# Altium footprint library Unitree_HW_LIB.PcbLib: 6 footprints
Each footprint in its own frame and in the unit in brackets; x right, y up, seen from the top. Pads: shape width x height; smd on the part's side, far side on the other; paste and mask are expansions set on the pad; w line width, h text height; cw(c..) or ccw(c..) is an arc to the next point about the centre after c.
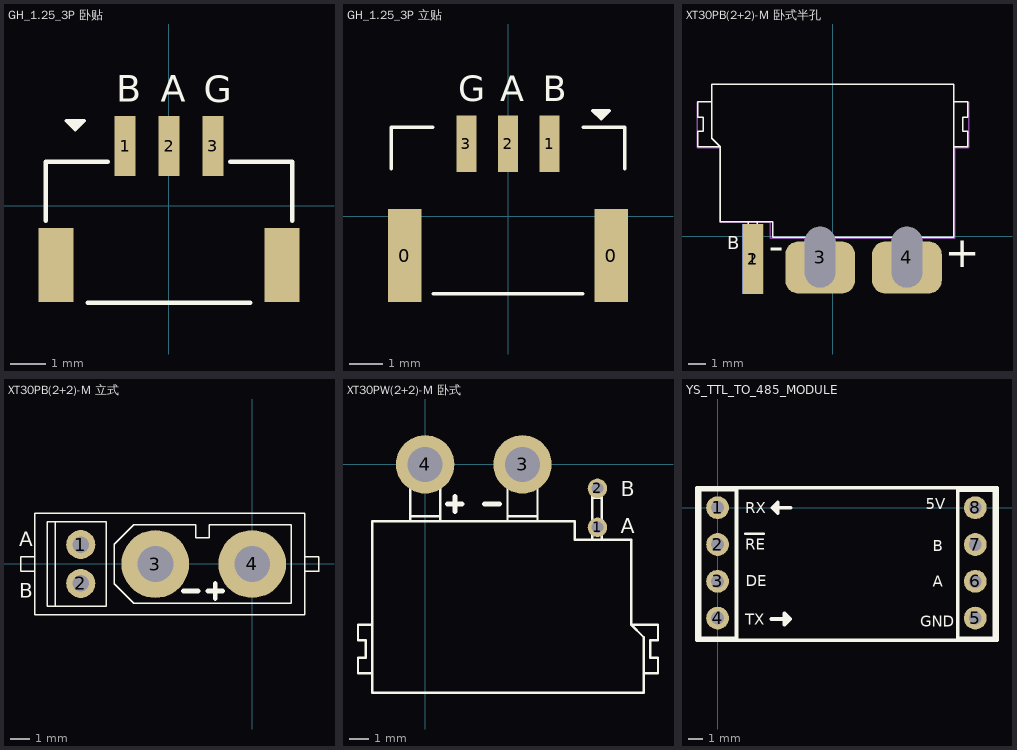
[diagram p0: the footprints below, top view; thin cyan lines are the x and y axes]

## GH_1.25_3P 卧贴 [mm]
pads (5):
  rect 0.6x1.7 smd: 1(-1.25,1.689) 2(0,1.689) 3(1.25,1.689)
  rect 1x2.1 smd: ""(-3.216,-1.689) ""(3.216,-1.689)
Top Overlay:
  region: -2.917,2.409 -2.417,2.409 -2.667,2.159
  lines w0.1: -2.917,2.409 -2.667,2.159 -2.417,2.409 -2.917,2.409
  lines w0.127: -3.5,-0.432 -3.5,1.245 -1.747,1.245 ; -2.306,-2.769 2.311,-2.769 ; 1.747,1.245 3.5,1.245 3.5,-0.432
  text "B" at -1.499,2.946 h0.76
  text "A" at -0.229,2.946 h0.76
  text "G" at 0.992,2.939 h0.76
3D body "SM03B-GHS-TB.STEP": height 4.35, standoff 0, extent -3.5,-2.793 3.5,2.057

## GH_1.25_3P 立贴 [mm]
pads (5):
  rect 1x2.8 smd: 0(-3.1,-1.175) 0(3.1,-1.175)
  rect 0.6x1.7 smd: 1(1.25,2.175) 2(0,2.175) 3(-1.25,2.175)
Top Overlay:
  region: 2.544,3.171 3.044,3.171 2.794,2.921
  lines w0.1: -3.5,1.425 -3.5,2.675 -2.25,2.675 ; -2.25,-2.325 2.25,-2.325 ; 2.25,2.675 3.5,2.675 3.5,1.425 ; 2.544,3.171 3.044,3.171 2.794,2.921 2.544,3.171
  text "G" at -1.499,3.454 h0.76
  text "A" at -0.229,3.454 h0.76
  text "B" at 1.041,3.454 h0.76
3D body "BM03B-GHS-TBT.STEP": height 4.18, standoff -0.03, extent -3.5,-2.275 3.5,2.675

## XT30PB(2+2)-M 卧式半孔 [mm]
pads (4):
  rect 1.2x4 smd far side: 1(-4.6,-1.3)
  rect 1.2x4 smd: 2(-4.6,-1.3)
  rrect50% 4x3 hole 1.75 slot 3.5 at 90 deg copper offset 0,-0.6: 3(-0.734,-1.188) 4(4.25,-1.188)
Top Overlay:
  lines w0.076: -6.952,7.739 -7.752,7.739 -7.752,6.839 -7.452,6.839 -7.452,6.039 -7.752,6.039 -7.752,5.139 -6.452,5.139 ; -4.852,0.839 -4.852,-1.661 ; -4.352,0.839 -4.352,-1.661 ; -1.552,-0.061 -1.552,-2.261 ; 0.048,-0.061 0.048,-2.261 ; 3.448,-0.061 3.448,-2.261 ; 5.048,-0.061 5.048,-2.261 ; 6.948,5.139 7.748,5.139 7.748,6.039 7.448,6.039 7.448,6.839 7.748,6.839 7.748,7.739 6.948,7.739 ; -6.452,5.139 -6.452,0.839 -3.452,0.839 -3.452,-0.061 6.948,-0.061 6.948,8.739 -6.952,8.739 -6.952,5.639 -6.452,5.139 ; -4.852,-1.661 -4.702,-2.261 -4.502,-2.261 -4.352,-1.661 ; -4.852,-1.661 -4.352,-1.661 ; -1.552,-2.261 -1.252,-2.561 -0.252,-2.561 0.048,-2.261 ; -1.552,-2.261 0.048,-2.261 ; 3.448,-2.261 3.748,-2.561 4.748,-2.561 5.048,-2.261 ; 3.448,-2.261 5.048,-2.261
  text "B" at -6.071,-0.737 h0.76
  text "+" at 6.42,-2.349 h3
  text "-" at -3.691,-1.952 h3
Bottom Overlay:
  text "A" at -5.613,-0.737 h0.76
  text "+" at 6.42,-0.524 h3
  text "-" at -3.708,-0.596 h3
Mechanical 1:
  lines w0.076: -7.8,7.738 -7.8,5.1 -6.5,5.1 -6.5,0.8 -3.6,0.8 -3.6,-0.1 -1.6,-0.1 -1.6,-2.652 0.1,-2.652 0.1,-0.1 3.4,-0.1 3.4,-2.65 3.402,-2.652 5.1,-2.652 5.1,-0.1 7,-0.1 7,5.1 7.8,5.1 7.8,7.734
3D body "XT30PB(2+2)-M 3D DRAWING.STEP": height 1.83, standoff -3.37, extent -7.752,-2.561 7.748,8.739

## XT30PB(2+2)-M 立式 [mm]
pads (4):
  round 1.5 hole 0.85: 1(-8.85,1) 2(-8.85,-1)
  round 3.5 hole 1.85: 3(-5,0) 4(0,0)
Top Overlay:
  lines w0.076: -11.23,-0.366 -11.96,-0.366 ; -10.18,-2.185 -10.18,2.184 ; -11.96,-0.366 -11.96,0.364 -11.23,0.364 ; -11.96,-0.366 -11.96,-0.366 ; -11.23,0.364 -11.23,0.364 ; -10.59,-2.185 -7.54,-2.185 ; -10.59,-2.185 -10.59,2.184 -7.54,2.184 -7.54,-2.185 ; -10.59,-2.185 -10.59,-2.185 ; -7.54,-2.185 -7.54,-2.185 ; -7.11,1.015 -6.11,2.015 -2.91,2.015 -2.91,2.015 -2.91,1.345 ; -7.11,1.015 -7.11,-1.015 -6.11,-2.015 ; -7.11,1.015 -7.11,1.015 ; -7.11,1.015 -7.11,1.015 ; -6.11,-2.015 2.02,-2.015 2.02,-2.015 2.02,2.015 ; -6.11,-2.015 -6.11,-2.015 ; -6.11,-2.015 -6.11,-2.015 ; -2.91,1.345 -2.91,1.345 ; -2.91,1.345 -2.21,1.345 ; -2.21,1.345 -2.21,2.015 2.02,2.015 ; -2.21,1.345 -2.21,1.345 ; 2.02,2.015 2.02,2.015 ; 2.72,-0.365 3.45,-0.365 ; 2.72,-0.365 2.72,-0.365 ; 2.72,-0.365 2.72,0.365 2.72,0.365 3.45,0.365 3.45,0.365 3.45,-0.365 ; 2.72,-0.365 2.72,-2.615 2.72,-2.615 -11.23,-2.615 -11.23,2.614 -11.229,2.615 2.72,2.615 ; 2.72,-0.365 2.72,-0.365 ; 2.72,-0.365 2.72,2.615 ; 2.72,2.615 2.72,2.615 ; 3.45,-0.365 3.45,-0.365
  lines w0.254: -3.556,-1.397 -2.794,-1.397 ; -2.286,-1.397 -1.524,-1.397 ; -1.905,-1.778 -1.905,-1.016
  text "B" at -12.04,-1.753 h0.76
  text "A" at -12.04,0.914 h0.76
3D body "XT30PB(2+2)-M 3D DRAWING.STEP": height 8.9, standoff -2.4, extent -12.005,-2.615 3.495,2.585

## XT30PW(2+2)-M 卧式 [mm]
pads (4):
  round 1 hole 0.6: 1(8.85,-3.23) 2(8.85,-1.23)
  round 3 hole 1.8: 3(5,0) 4(0,0)
Top Overlay:
  lines w0.127: -2.72,-10.73 -3.45,-10.73 -3.45,-9.93 -3.05,-9.93 -3.05,-9.03 -3.45,-9.03 -3.45,-8.23 -2.72,-8.23 ; -0.77,-2.93 -0.77,-2.67 ; 0.77,-2.93 0.77,-2.67 ; 4.23,-2.93 4.23,-2.67 ; 5.77,-2.93 5.77,-2.67 ; 8.58,-3.88 8.58,-1.71 ; 9.07,-3.88 9.07,-1.71 ; 11.23,-10.73 11.96,-10.73 11.96,-9.93 11.56,-9.93 11.56,-9.03 11.96,-9.03 11.96,-8.23 10.58,-8.23 ; -0.77,-2.67 -0.77,-0.18 cw(c0,-0.18) 0,0.59 cw(c0,-0.18) 0.77,-0.18 0.77,-2.67 ; -0.77,-2.67 0,-2.67 0.77,-2.67 ; 4.23,-2.67 4.23,-0.18 cw(c5,-0.18) 5,0.59 cw(c5,-0.18) 5.77,-0.18 5.77,-2.67 ; 4.23,-2.67 5,-2.67 5.77,-2.67 ; 8.58,-1.71 9.07,-1.71 ; 8.58,-1.71 8.58,-0.965 9.07,-0.965 9.07,-1.71 ; 10.58,-8.23 10.58,-3.88 7.68,-3.88 7.68,-2.93 -2.72,-2.93 -2.72,-11.73 11.23,-11.73 11.23,-8.88 10.58,-8.23
  lines w0.254: 1.143,-2.032 1.905,-2.032 ; 1.524,-2.413 1.524,-1.651 ; 3.048,-2.032 3.81,-2.032
  text "B" at 10.058,-1.626 h0.76
  text "A" at 10.058,-3.531 h0.76
3D body "XT30(2+2)PW-M.STEP": height 5.22, standoff -1.91, extent -3.455,-11.695 11.955,0.625

## YS_TTL_TO_485_MODULE [mil]
pads (8):
  round 62 hole 35: 1(0,0) 2(0,-100) 3(0,-200) 4(0,-300) 5(700,-300) 6(700,-200) 7(700,-100) 8(700,0)
Top Overlay:
  lines w7: 75.15,-71.12 125.15,-71.12
  lines w10: 146.5,-302.5 196.5,-302.5 ; 198.17,0 148.17,0 ; 652.5,-354 652.5,48.2 751.5,48.2 751.5,-354 750.5,-355 653.5,-355 ; 148.17,0 163.17,15 163.17,-15 148.17,0 ; 196.5,-302.5 181.5,-287.5 181.5,-317.5 196.5,-302.5 ; -56,-360 -56,54.05 759,54.05 759,-360 -56,-360 ; -48.95,-355 -48.95,48.56 51.5,48.56 51.5,-354 50.5,-355 -48.95,-355
  text "RX" at 74.9,-15.72 h30
  text "RE" at 74.9,-114.64 h30
  text "DE" at 76,-214 h30
  text "TX" at 74.9,-317.77 h30
  text "GND" at 551.01,-323.72 h30
  text "5V" at 564.98,-4.29 h30
  text "B" at 585,-119 h30
  text "A" at 584.7,-214.12 h30
3D body: height 216.54, standoff -118.11, extent 685,-315 715,-285
3D body: height 216.54, standoff -118.11, extent 685,-215 715,-185
3D body: height 216.54, standoff -118.11, extent 685,-115 715,-85
3D body: height 216.54, standoff -118.11, extent 685,-15 715,15
3D body: height 216.54, standoff -118.11, extent -15,-315 15,-285
3D body: height 216.54, standoff -118.11, extent -15,-215 15,-185
3D body: height 216.54, standoff -118.11, extent -15,-115 15,-85
3D body: height 98.43, standoff 3.94, extent 650,-355 748.19,46.17
3D body: height 216.54, standoff -118.11, extent -15,-15 15,15
3D body: height 98.43, standoff 3.94, extent -50,-355 48.19,46.17
3D body "TTL_TO_485_V0.1.step": height 232.28, standoff 102.36, extent -55,-359.06 760,55